# EAGLE library part ESP-12E (library ESPstack)
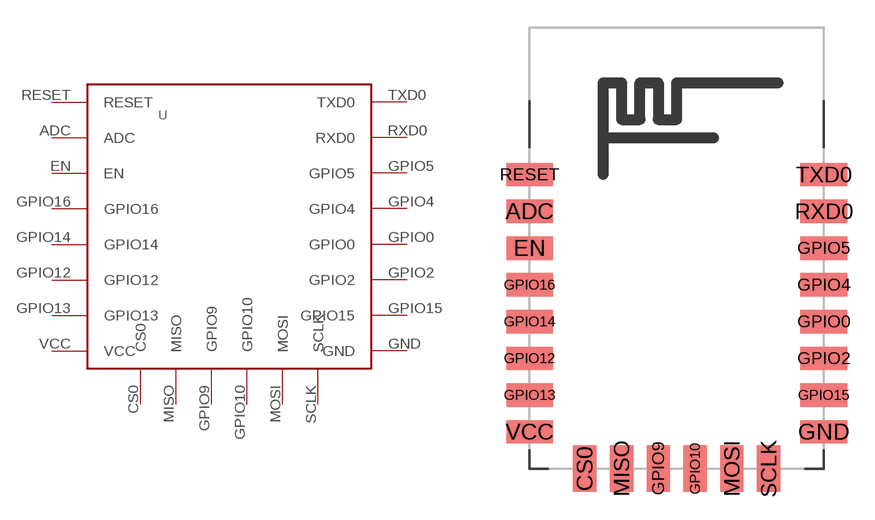
[diagram p1: symbol with the pads of ESP-12E; footprint ESP-12E]

Designator prefix U

## ESP-12E  [ESP-12E]
ADC  ADC
CS0  CS0
EN  EN
GND  GND  pwr
GPIO0  GPIO0
GPIO2  GPIO2
GPIO4  GPIO4
GPIO5  GPIO5
GPIO9  GPIO9
GPIO10  GPIO10
GPIO12  GPIO12
GPIO13  GPIO13
GPIO14  GPIO14
GPIO15  GPIO15
GPIO16  GPIO16
MISO  MISO
MOSI  MOSI
RESET  RESET
RXD0  RXD0
SCLK  SCLK
TXD0  TXD0
VCC  VCC  pwr

## Footprint ESP-12E (pad centres in mm)
smd 2.54 x 1.27: ADC 0,14; EN 0,12; GND 16,2; GPIO0 16,8; GPIO2 16,6; GPIO4 16,10; GPIO5 16,12; GPIO12 0,6; GPIO13 0,4; GPIO14 0,8; GPIO15 16,4; GPIO16 0,10; RESET 0,16; RXD0 16,14; TXD0 16,16; VCC 0,2
smd 1.27 x 2.54: CS0 3,0; GPIO9 7,0; GPIO10 9,0; MISO 5,0; MOSI 11,0; SCLK 13,0